# Altium footprint library IC_LMG1210RVRT.PcbLib: 1 footprints
Each footprint in its own frame and in the unit in brackets; x right, y up, seen from the top. Pads: shape width x height; smd on the part's side, far side on the other; paste and mask are expansions set on the pad; w line width, h text height; cw(c..) or ccw(c..) is an arc to the next point about the centre after c.
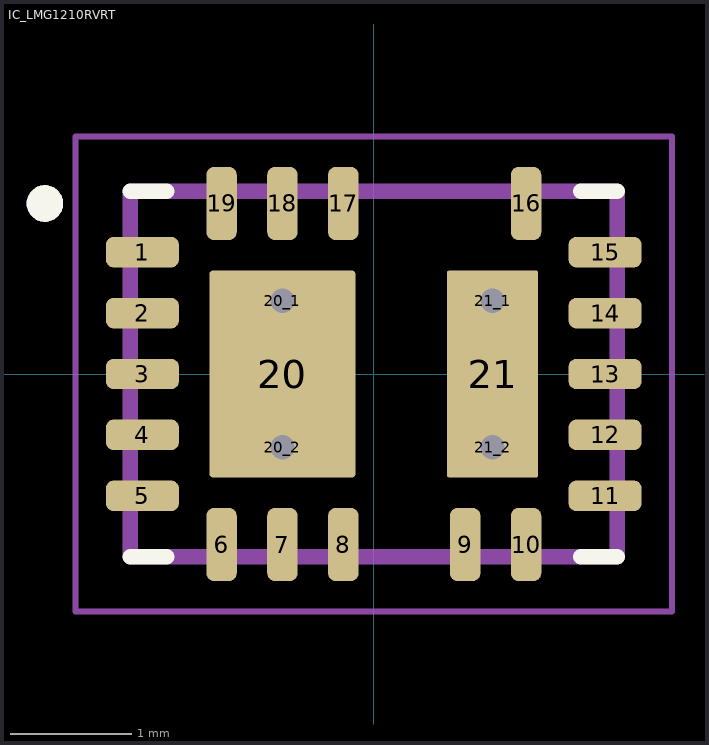
[diagram p0: the footprint, top view; thin cyan lines are the x and y axes]

## IC_LMG1210RVRT [mm]
height 0.8
pads (25):
  rrect50% 0.6x0.25 smd mask+0: 1(-1.9,1) 2(-1.9,0.5) 3(-1.9,0) 4(-1.9,-0.5) 5(-1.9,-1) 11(1.9,-1) 12(1.9,-0.5) 13(1.9,0) 14(1.9,0.5) 15(1.9,1)
  rrect50% 0.25x0.6 smd mask+0: 6(-1.25,-1.4) 7(-0.75,-1.4) 8(-0.25,-1.4) 9(0.75,-1.4) 10(1.25,-1.4) 16(1.25,1.4) 17(-0.25,1.4) 18(-0.75,1.4) 19(-1.25,1.4)
  rrect5% 1.2x1.7 smd paste-2 mask+0: 20(-0.75,0)
  round 0.4 hole 0.2 mask+0: 20_1(-0.75,0.6) 20_2(-0.75,-0.6) 21_1(0.975,0.6) 21_2(0.975,-0.6)
  rrect5% 0.75x1.7 smd paste-2 mask+0: 21(0.975,0)
Top Overlay:
  circle w0.15: c-2.7,1.4 r0.075
  lines w0.127: -2,-1.5 -1.7,-1.5 ; -2,1.5 -1.7,1.5 ; 1.7,-1.5 2,-1.5 ; 1.7,1.5 2,1.5
Top Paste:
  region: 1.33,-0.85 0.62,-0.85 0.62,-0.1 1.33,-0.1
  region: 1.33,0.1 0.62,0.1 0.62,0.85 1.33,0.85
  region: -0.185,-0.85 -1.315,-0.85 -1.315,-0.1 -0.185,-0.1
  region: -0.185,0.1 -1.315,0.1 -1.315,0.85 -0.185,0.85
Top Solder:
  drawing of 21 lines, arcs and shapes, not listed
Assembly Top:
  circle w0.15: c-2.7,1.4 r0.075
  lines w0.127: -2,-1.5 2,-1.5 2,1.5 -2,1.5 -2,-1.5
Top Courtyard:
  lines w0.05: -2.45,-1.95 2.45,-1.95 2.45,1.95 -2.45,1.95 -2.45,-1.95
3D body "step_temp.STEP": height 0.8, standoff 0, extent -2,-1.5 2,1.5